# Altium schematic symbol library jumper - 2pin.SchLib: 1 symbol
Pins are listed as number, name and electrical type; pins without a type are passive.

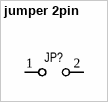
[diagram p0: symbol jumper 2pin]

## jumper 2pin
designator JP?
Single jumper (on-off)
pins: 1, 2